# Altium footprint library Communication_Interfaces_RS232_SMD.PcbLib: 1 footprints
Each footprint in its own frame and in the unit in brackets; x right, y up, seen from the top. Pads: shape width x height; smd on the part's side, far side on the other; paste and mask are expansions set on the pad; w line width, h text height; cw(c..) or ccw(c..) is an arc to the next point about the centre after c.
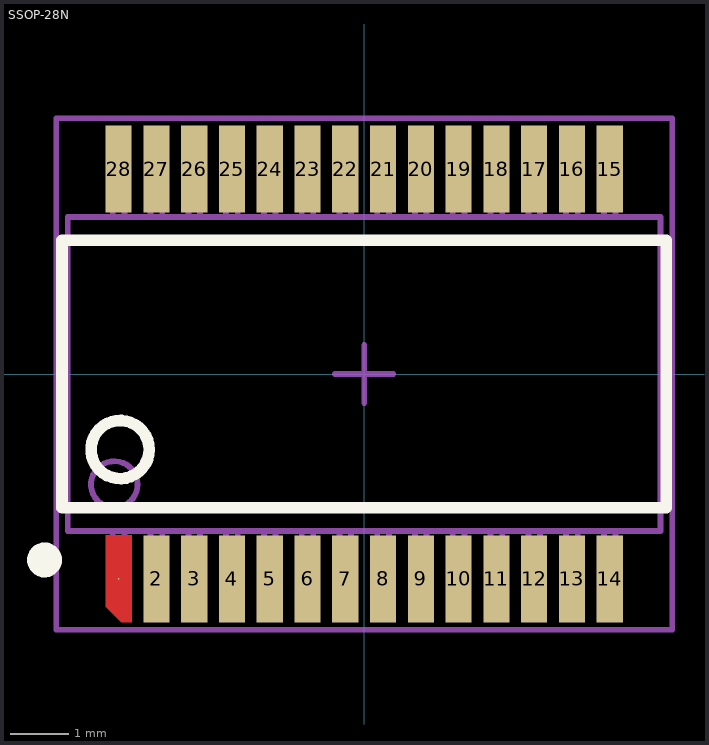
[diagram p0: the footprint, top view; thin cyan lines are the x and y axes]

## SSOP-28N [mm]
height 2
pads (28):
  round 0.025 smd: 1(-4.225,-3.525)
  rect 0.45x1.5 smd: 2(-3.575,-3.525) 3(-2.925,-3.525) 4(-2.275,-3.525) 5(-1.625,-3.525) 6(-0.975,-3.525) 7(-0.325,-3.525) 8(0.325,-3.525) 9(0.975,-3.525) 10(1.625,-3.525) 11(2.275,-3.525) 12(2.925,-3.525) 13(3.575,-3.525) 14(4.225,-3.525) 15(4.225,3.525) 16(3.575,3.525) 17(2.925,3.525) 18(2.275,3.525) 19(1.625,3.525) 20(0.975,3.525) 21(0.325,3.525) 22(-0.325,3.525) 23(-0.975,3.525) 24(-1.625,3.525) 25(-2.275,3.525) 26(-2.925,3.525) 27(-3.575,3.525) 28(-4.225,3.525)
Top Layer:
  region: -4.45,-2.775 -4,-2.775 -4,-4.275 -4.18,-4.275 -4.45,-4.005
Top Overlay:
  circle w0.3: c-5.5,-3.2 r0.15
  circle w0.2: c-4.2,-1.3 r0.5
  lines w0.2: -5.2,-2.3 5.2,-2.3 5.2,2.3 -5.2,2.3 -5.2,-2.3
Top Package:
  circle w0.1: c-4.3,-1.9 r0.4
  lines w0.1: -4.325,-2.7 -4.325,-3.9 -4.125,-3.9 -4.125,-2.7 ; -4.325,2.7 -4.325,3.9 -4.125,3.9 -4.125,2.7 ; -3.675,-2.7 -3.675,-3.9 -3.475,-3.9 -3.475,-2.7 ; -3.675,2.7 -3.675,3.9 -3.475,3.9 -3.475,2.7 ; -3.025,-2.7 -3.025,-3.9 -2.825,-3.9 -2.825,-2.7 ; -3.025,2.7 -3.025,3.9 -2.825,3.9 -2.825,2.7 ; -2.375,-2.7 -2.375,-3.9 -2.175,-3.9 -2.175,-2.7 ; -2.375,2.7 -2.375,3.9 -2.175,3.9 -2.175,2.7 ; -1.725,-2.7 -1.725,-3.9 -1.525,-3.9 -1.525,-2.7 ; -1.725,2.7 -1.725,3.9 -1.525,3.9 -1.525,2.7 ; -1.075,-2.7 -1.075,-3.9 -0.875,-3.9 -0.875,-2.7 ; -0.425,-2.7 -0.425,-3.9 -0.225,-3.9 -0.225,-2.7 ; -0.425,2.7 -0.425,3.9 -0.225,3.9 -0.225,2.7 ; 0.225,-2.7 0.225,-3.9 0.425,-3.9 0.425,-2.7 ; 0.225,2.7 0.225,3.9 0.425,3.9 0.425,2.7 ; 0.875,-2.7 0.875,-3.9 1.075,-3.9 1.075,-2.7 ; 0.875,2.7 0.875,3.9 1.075,3.9 1.075,2.7 ; 1.525,-2.7 1.525,-3.9 1.725,-3.9 1.725,-2.7 ; 1.525,2.7 1.525,3.9 1.725,3.9 1.725,2.7 ; 2.175,-2.7 2.175,-3.9 2.375,-3.9 2.375,-2.7 ; 2.175,2.7 2.175,3.9 2.375,3.9 2.375,2.7 ; 2.825,-2.7 2.825,-3.9 3.025,-3.9 3.025,-2.7 ; 2.825,2.7 2.825,3.9 3.025,3.9 3.025,2.7 ; 3.475,-2.7 3.475,-3.9 3.675,-3.9 3.675,-2.7 ; 3.475,2.7 3.475,3.9 3.675,3.9 3.675,2.7 ; 4.125,-2.7 4.125,-3.9 4.325,-3.9 4.325,-2.7 ; 4.125,2.7 4.125,3.9 4.325,3.9 4.325,2.7 ; -1.075,3.9 -1.075,2.7 -1.075,3.9 ; -1.075,3.9 -0.875,3.9 ; -1.075,3.9 -0.875,3.9 ; -0.875,3.9 -0.875,2.7 -0.875,3.9 ; -5.1,-2.7 -5.1,2.7 5.1,2.7 5.1,-2.7 -5.1,-2.7
Top Comment:
  text ".Comment" at -2.128,-0.503 h1.5
Top Designator:
  text ".Designator" at -3.438,-0.481 h2
Top Border:
  lines w0.1: -0.5,0 0.5,0 ; 0,-0.5 0,0.5 ; -5.3,-4.4 5.3,-4.4 5.3,4.4 -5.3,4.4 -5.3,-4.4
3D body "SSOP-28.STEP": height 1.9, standoff 0, extent -5.1,-3.9 5.1,3.9